# Altium schematic symbol library Schlib1.SchLib: 1 symbol
Pins are listed as number, name and electrical type; pins without a type are passive.

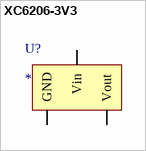
[diagram p0: symbol XC6206-3V3]

## XC6206-3V3
designator U?
footprint SOT23-3L
pins: 0 GND, 1 Vout, 2 Vin